# Altium footprint library Non-electric modules.PcbLib: 1 footprints
Each footprint in its own frame and in the unit in brackets; x right, y up, seen from the top. Pads: shape width x height; smd on the part's side, far side on the other; paste and mask are expansions set on the pad; w line width, h text height; cw(c..) or ccw(c..) is an arc to the next point about the centre after c.
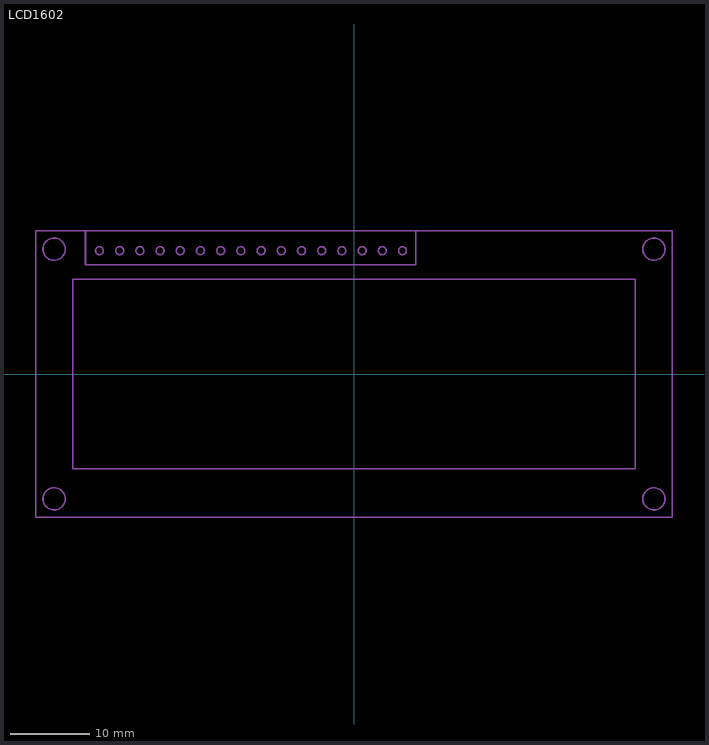
[diagram p0: the footprint, top view; thin cyan lines are the x and y axes]

## LCD1602 [mm] "LCD module 1602"
height 11
Mechanical 1:
  circle w0.2: c37.7,-15.7 r1.4
  circle w0.2: c37.7,15.7 r1.4
  circle w0.2: c-37.7,-15.7 r1.4
  circle w0.2: c-37.7,15.7 r1.4
  circle w0.2: c-32,15.5 r0.5
  circle w0.2: c-29.46,15.5 r0.5
  circle w0.2: c-26.92,15.5 r0.5
  circle w0.2: c-24.38,15.5 r0.5
  circle w0.2: c-21.84,15.5 r0.5
  circle w0.2: c-19.3,15.5 r0.5
  circle w0.2: c-16.76,15.5 r0.5
  circle w0.2: c-14.22,15.5 r0.5
  circle w0.2: c-11.68,15.5 r0.5
  circle w0.2: c-9.14,15.5 r0.5
  circle w0.2: c-6.6,15.5 r0.5
  circle w0.2: c-4.06,15.5 r0.5
  circle w0.2: c-1.52,15.5 r0.5
  circle w0.2: c1.02,15.5 r0.5
  circle w0.2: c3.56,15.5 r0.5
  circle w0.2: c6.1,15.5 r0.5
  lines w0.2: -33.75,18 -33.75,13.75 7.75,13.75 7.75,18 ; -40,-18 -20,-18 -19,-18 19,-18 40,-18 40,18 -40,18 -40,-17 -40,-18 ; -40,-18 -40,-18 ; -35.35,-11.9 35.35,-11.9 35.35,11.9 -35.35,11.9 -35.35,-11.9
3D body "LCD1602.step": height 11.05, standoff -1, extent -40,-18 40,18